# EAGLE library part 794623-6 (library con-amp_edit)
MICRO MATE N LOK Dual Row, grid 1.5 mm Source: http://catalog.tycoelectronics.com .. ENG_CD_794623_F.pdf
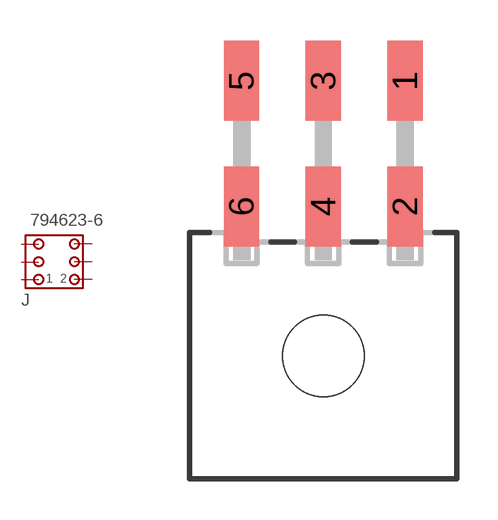
[diagram p142: symbol with the pads of 794623-6; footprint 794623-6]

Designator prefix J

## 794623-6  [794623-6]
1  1  pas
2  2  pas
3  3  pas
4  4  pas
5  5  pas
6  6  pas

## Footprint 794623-6 (pad centres in mm)
MICRO MATE N LOK Dual Row, grid 1.5 mm Source: http://catalog.tycoelectronics.com .. ENG_CD_794623_F.pdf
smd 1.3 x 2.92: 1 3,10.1; 2 3,5.48; 3 0,10.1; 4 0,5.48; 5 -3,10.1; 6 -3,5.48
hole 3 at 0,0